# EAGLE library part ST7735 (library ILI9341)
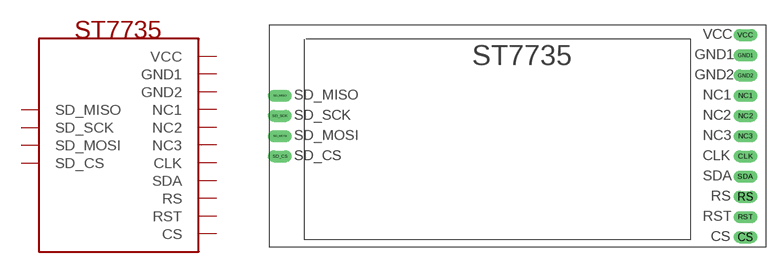
[diagram p1: symbol with the pads of ST7735; footprint ST7735]

Designator prefix -

## ST7735  [ST7735]
CLK  CLK
CS  CS
GND1  GND1
GND2  GND2
NC1  NC1
NC2  NC2
NC3  NC3
RS  RS
RST  RST
SD_CS  SD_CS
SD_MISO  SD_MISO
SD_MOSI  SD_MOSI
SD_SCK  SD_SCK
SDA  SDA
VCC  VCC

## Footprint ST7735 (pad centres in mm)
drill 1 long: CLK 0,-3.81; CS 0,-13.97; GND1 0,8.89; GND2 0,6.35; NC1 0,3.81; NC2 0,1.27; NC3 0,-1.27; RS 0,-8.89; RST 0,-11.43; SD_CS -58.42,-3.81; SD_MISO -58.42,3.81; SD_MOSI -58.42,-1.27; SD_SCK -58.42,1.27; SDA 0,-6.35; VCC 0,11.43